# Altium schematic symbol library QUTMS_InductorLibrary.SchLib: 4 symbols
Pins are listed as number, name and electrical type; pins without a type are passive.

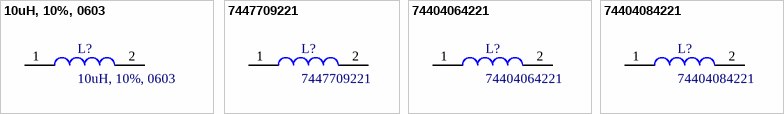
[diagram p0: symbols 10uH, 10%, 0603 to 74404084221]

## 10uH, 10%, 0603
designator L?
ComponentLink1Description: Digikey; ComponentLink1URL: https://www.digikey.com.au/product-detail/en/w%C3%BCrth-elektronik/74404064221/732-7261-1-ND/5353241; ComponentLink2Description: LCSC A; ComponentLink2URL: https://lcsc.com/product-detail/Power-Inductors_Sunlord-SWPA6045S221MT_C91047.html; ComponentLink3Description: LCSC B; ComponentLink3URL: https://lcsc.com/product-detail/Power-Inductors_SXN-Shun-Xiang-Nuo-Elec-SMNR6045-221MT_C467145.html
footprint Inductor_0603
pins: 1, 2

## 7447709221
designator L?
FIXED IND 220UH 1.8A 300 MOHM; ComponentLink1Description: Datasheet; ComponentLink1URL: https://www.we-online.de/katalog/datasheet/7447709221.pdf; ComponentLink2Description: Digikey; ComponentLink2URL: https://www.digikey.com.au/product-detail/en/w%C3%BCrth-elektronik/7447709221/732-1696-1-ND/1994276
footprint INDUCTOR_12X12MM
pins: 1, 2

## 74404064221
designator L?
FIXED IND 220UH 660MA 850 MOHM; ComponentLink1Description: Digikey; ComponentLink1URL: https://www.digikey.com.au/product-detail/en/w%C3%BCrth-elektronik/74404064221/732-7261-1-ND/5353241; ComponentLink2Description: LCSC A; ComponentLink2URL: https://lcsc.com/product-detail/Power-Inductors_Sunlord-SWPA6045S221MT_C91047.html; ComponentLink3Description: LCSC B; ComponentLink3URL: https://lcsc.com/product-detail/Power-Inductors_SXN-Shun-Xiang-Nuo-Elec-SMNR6045-221MT_C467145.html
footprint Inductor_6x6mm
pins: 1, 2

## 74404084221
designator L?
FIXED IND 220UH 810MA 592 MOHM; ComponentLink1Description: Datasheet; ComponentLink1URL: https://www.we-online.de/katalog/datasheet/74404084221.pdf; ComponentLink2Description: Digikey; ComponentLink2URL: https://www.digikey.com.au/product-detail/en/w%C3%BCrth-elektronik/74404084221/732-7266-1-ND/5353246?fbclid=IwAR2IQj7zcmEUnJ8n40LKmguzerTSd0zliF9ouewbw6PbKBP8Cf58NndJ4Os
footprint Inductor_8x8mm
pins: 1, 2